# EAGLE library part ST62T65C6 (library ST62T65C6)
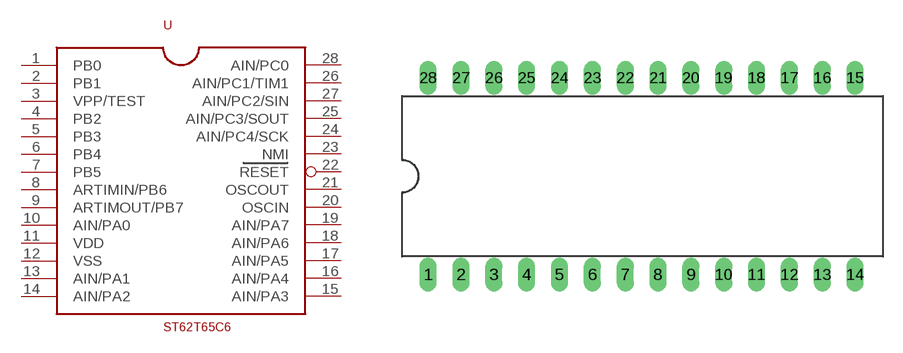
[diagram p0: symbol with the pads of ST62T65C6; footprint ST62T65C6]

Designator prefix -

## ST62T65C6  [ST62T65C6]
1  PB0
2  PB1
3  VPP/TEST
4  PB2
5  PB3
6  PB4
7  PB5
8  ARTIMIN/PB6
9  ARTIMOUT/PB7
10  AIN/PA0
11  VDD
12  VSS
13  AIN/PA1
14  AIN/PA2
15  AIN/PA3
16  AIN/PA4
17  AIN/PA5
18  AIN/PA6
19  AIN/PA7
20  OSCIN
21  OSCOUT
22  RESET
23  NMI
24  AIN/PC4/SCK
25  AIN/PC3/SOUT
26  AIN/PC1/TIM1
27  AIN/PC2/SIN
28  AIN/PC0

## Footprint ST62T65C6 (pad centres in mm)
drill 0.813 long: 1 -15.24,-7.62; 2 -12.7,-7.62; 3 -10.16,-7.62; 4 -7.62,-7.62; 5 -5.08,-7.62; 6 -2.54,-7.62; 7 0,-7.62; 8 2.54,-7.62; 9 5.08,-7.62; 10 7.62,-7.62; 11 10.16,-7.62; 12 12.7,-7.62; 13 15.24,-7.62; 14 17.78,-7.62; 15 17.78,7.62; 16 15.24,7.62; 17 12.7,7.62; 18 10.16,7.62; 19 7.62,7.62; 20 5.08,7.62; 21 2.54,7.62; 22 0,7.62; 23 -2.54,7.62; 24 -5.08,7.62; 25 -7.62,7.62; 26 -10.16,7.62; 27 -12.7,7.62; 28 -15.24,7.62